# EAGLE library part 691413720021 (library Wurth_Elektronik_Electromechanic_Terminal_Blocks_Connectors_rev16b)
WR-TBL Terminal block - serie 413 5.0mm - Spring clamp/Screw less - 45° entry - 21p Code:Con_TBL_Screwless_5.00_6914137200xxB_691413720021 Created 2014-12-22, aslant tao 2014 (C) Würth Elektronik
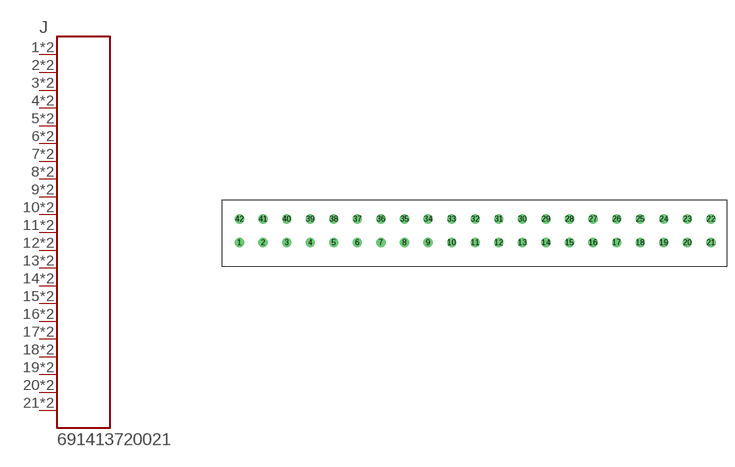
[diagram p268: symbol with the pads of 691413720021; footprint 691413720021]

Designator prefix J

## 691413720021  [691413720021]
1  1  pas
2  2  pas
3  3  pas
4  4  pas
5  5  pas
6  6  pas
7  7  pas
8  8  pas
9  9  pas
10  10  pas
11  11  pas
12  12  pas
13  13  pas
14  14  pas
15  15  pas
16  16  pas
17  17  pas
18  18  pas
19  19  pas
20  20  pas
21  21  pas
22  21  pas
23  20  pas
24  19  pas
25  18  pas
26  17  pas
27  16  pas
28  15  pas
29  14  pas
30  13  pas
31  12  pas
32  11  pas
33  10  pas
34  9  pas
35  8  pas
36  7  pas
37  6  pas
38  5  pas
39  4  pas
40  3  pas
41  2  pas
42  1  pas

## Footprint 691413720021 (pad centres in mm)
WR-TBL Serie 413 - 5.0mm Screwless 45° Entry - 3 mm2 Wires, 21 Pins
drill 1.3: 1 0,-2.5; 2 5,-2.5; 3 10,-2.5; 4 15,-2.5; 5 20,-2.5; 6 25,-2.5; 7 30,-2.5; 8 35,-2.5; 9 40,-2.5; 10 45,-2.5; 11 50,-2.5; 12 55,-2.5; 13 60,-2.5; 14 65,-2.5; 15 70,-2.5; 16 75,-2.5; 17 80,-2.5; 18 85,-2.5; 19 90,-2.5; 20 95,-2.5; 21 100,-2.5; 22 100,2.5; 23 95,2.5; 24 90,2.5; 25 85,2.5; 26 80,2.5; 27 75,2.5; 28 70,2.5; 29 65,2.5; 30 60,2.5; 31 55,2.5; 32 50,2.5; 33 45,2.5; 34 40,2.5; 35 35,2.5; 36 30,2.5; 37 25,2.5; 38 20,2.5; 39 15,2.5; 40 10,2.5; 41 5,2.5; 42 0,2.5